# Altium schematic symbol library K210-Main-Board.SchLib: 4 symbols
Pins are listed as number, name and electrical type; pins without a type are passive.

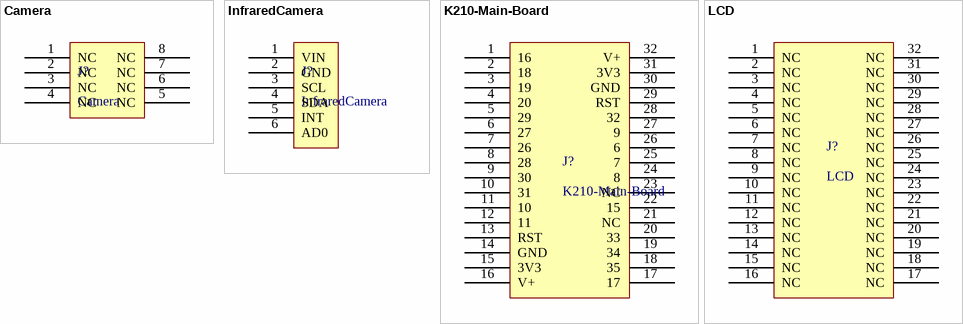
[diagram p0: symbols Camera to LCD]

## Camera
designator J?
footprint Camera
pins: 1 NC, 2 NC, 3 NC, 4 NC, 5 NC, 6 NC, 7 NC, 8 NC

## InfraredCamera
designator J?
footprint InfraredCamera
pins: 1 VIN, 2 GND, 3 SCL, 4 SDA, 5 INT, 6 AD0

## K210-Main-Board
designator J?
footprint K210-Main-Board
pins: 1 16, 2 18, 3 19, 4 20, 5 29, 6 27, 7 26, 8 28, 9 30, 10 31, 11 10, 12 11, 13 RST, 14 GND, 15 3V3, 16 V+, 17, 18 35, 19 34, 20 33, 21 NC, 22 15, 23 NC, 24 8, 25 7, 26 6, 27 9, 28 32, 29 RST, 30 GND, 31 3V3, 32 V+

## LCD
designator J?
footprint LCD
pins: 1 NC, 2 NC, 3 NC, 4 NC, 5 NC, 6 NC, 7 NC, 8 NC, 9 NC, 10 NC, 11 NC, 12 NC, 13 NC, 14 NC, 15 NC, 16 NC, 17 NC, 18 NC, 19 NC, 20 NC, 21 NC, 22 NC, 23 NC, 24 NC, 25 NC, 26 NC, 27 NC, 28 NC, 29 NC, 30 NC, 31 NC, 32 NC